# EAGLE library part MAX5805BAUBT (library U-Maxim-MAX5805BAUBT-DAC)
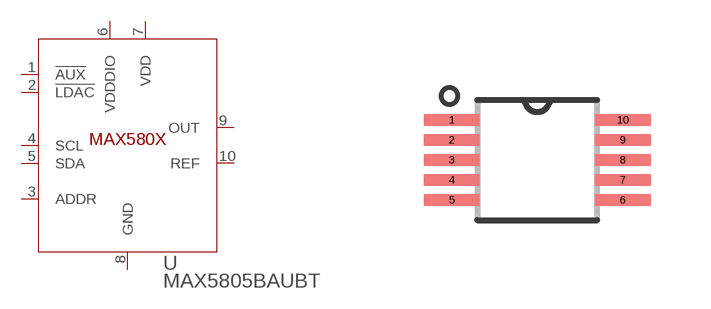
[diagram p0: symbol with the pads of MAXIM-10PIN-UMAX; footprint MAXIM-10PIN-UMAX]

Designator prefix U

## MAX5805BAUBT (DESCRIPTION: Data acquisition IC - DA converter _DAC_ Maxim Integrated MAX5805BAUB+ uMAX 10; DIGI-KEY_PART_NUMBER: MAX5805BAUB+-ND; DIGI-KEY_PURCHASE_URL: https://www.digikey.com/product-detail/en/maxim-integrated/MAX5805BAUB-/MAX5805BAUB--ND/4271373?utm_source=snapeda&utm_medium=aggregator&utm_campaign=symbol; MF: Maxim Integrated; MP: MAX5805BAUB+; PACKAGE: uMAX-10 Maxim)  [MAXIM-10PIN-UMAX]
1  !AUX  in
2  !LDAC  in
3  ADDR  in
4  SCL  in
5  SDA
6  VDDDIO  pwr
7  VDD  pwr
8  GND  pwr
9  OUT  out
10  REF

## Footprint MAXIM-10PIN-UMAX (pad centres in mm)
smd 1.4 x 0.28: 1 -2.14,1; 2 -2.14,0.5; 3 -2.14,0; 4 -2.14,-0.5; 5 -2.14,-1; 6 2.14,-1; 7 2.14,-0.5; 8 2.14,0; 9 2.14,0.5; 10 2.14,1